# Altium integrated library Celestial Library.IntLib: 629 symbols (part 17 of 28)

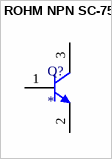
[diagram p368: symbol ROHM NPN SC-75]

## ROHM NPN SC-75
designator Q?
pins: 1 B, 2 E, 3 C


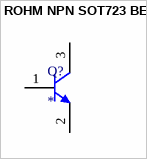
[diagram p369: symbol ROHM NPN SOT723 BEC]

## ROHM NPN SOT723 BEC
designator Q?
pins: 1 B, 2 E, 3 C


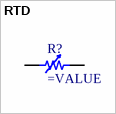
[diagram p370: symbol RTD]

## RTD
designator R?
SMT Resistor
pins: 1, 2


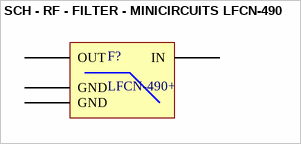
[diagram p371: symbol SCH - RF - FILTER - MINICIRCUITS LFCN-490]

## SCH - RF - FILTER - MINICIRCUITS LFCN-490
designator F?, comment LFCN-490+
490MHz Low Pass Filter
pins: 1 IN "Desc1", 2 GND "Desc1", 3 OUT "Desc1", 4 GND "Desc1"


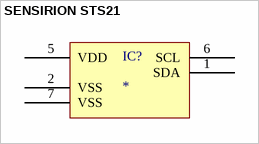
[diagram p372: symbol SENSIRION STS21]

## SENSIRION STS21
designator IC?
pins: 1 SDA, 2 VSS, 5 VDD, 6 SCL, 7 VSS


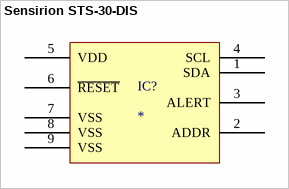
[diagram p373: symbol Sensirion STS-30-DIS]

## Sensirion STS-30-DIS
designator IC?
pins: 1 SDA, 2 ADDR, 3 ALERT, 4 SCL, 5 VDD, 6 ~{RESET}, 7 VSS, 8 VSS, 9 VSS


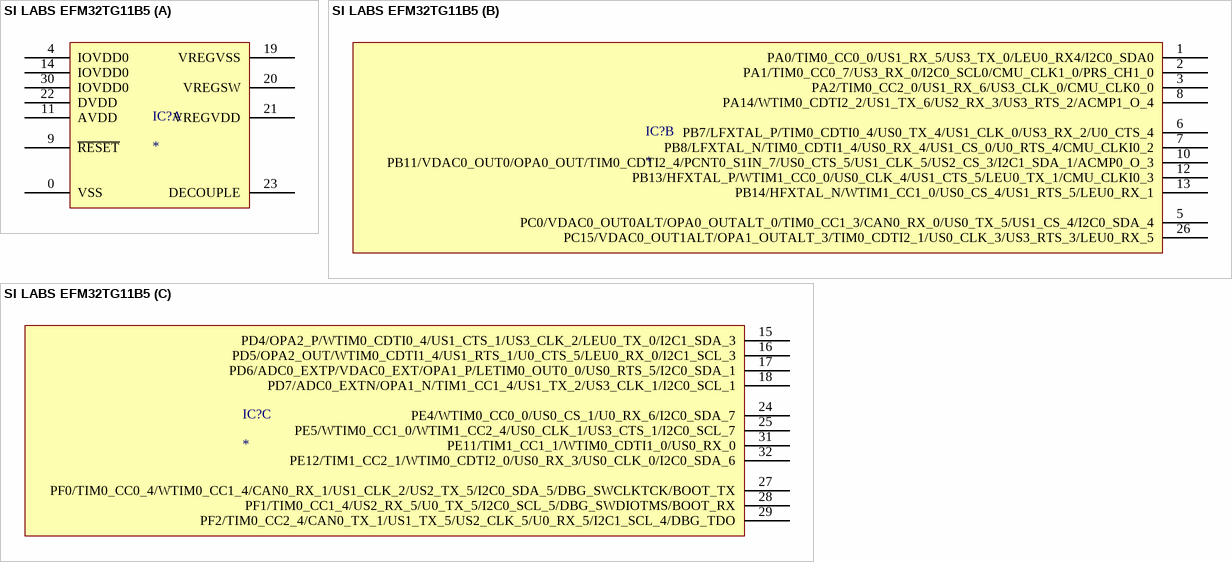
[diagram p374: symbol SI LABS EFM32TG11B5]

## SI LABS EFM32TG11B5
designator IC?
part A pins: 0 VSS, 4 IOVDD0, 9 ~{RESET}, 11 AVDD, 14 IOVDD0, 19 VREGVSS, 20 VREGSW, 21 VREGVDD, 22 DVDD, 23 DECOUPLE, 30 IOVDD0
part B pins: 1 PA0/TIM0_CC0_0/US1_RX_5/US3_TX_0/LEU0_RX4/I2C0_SDA0, 2 PA1/TIM0_CC0_7/US3_RX_0/I2C0_SCL0/CMU_CLK1_0/PRS_CH1_0, 3 PA2/TIM0_CC2_0/US1_RX_6/US3_CLK_0/CMU_CLK0_0, 5 PC0/VDAC0_OUT0ALT/OPA0_OUTALT_0/TIM0_CC1_3/CAN0_RX_0/US0_TX_5/US1_CS_4/I2C0_SDA_4, 6 PB7/LFXTAL_P/TIM0_CDTI0_4/US0_TX_4/US1_CLK_0/US3_RX_2/U0_CTS_4, 7 PB8/LFXTAL_N/TIM0_CDTI1_4/US0_RX_4/US1_CS_0/U0_RTS_4/CMU_CLKI0_2, 8 PA14/WTIM0_CDTI2_2/US1_TX_6/US2_RX_3/US3_RTS_2/ACMP1_O_4, 10 PB11/VDAC0_OUT0/OPA0_OUT/TIM0_CDTI2_4/PCNT0_S1IN_7/US0_CTS_5/US1_CLK_5/US2_CS_3/I2C1_SDA_1/ACMP0_O_3, 12 PB13/HFXTAL_P/WTIM1_CC0_0/US0_CLK_4/US1_CTS_5/LEU0_TX_1/CMU_CLKI0_3, 13 PB14/HFXTAL_N/WTIM1_CC1_0/US0_CS_4/US1_RTS_5/LEU0_RX_1, 26 PC15/VDAC0_OUT1ALT/OPA1_OUTALT_3/TIM0_CDTI2_1/US0_CLK_3/US3_RTS_3/LEU0_RX_5
part C pins: 15 PD4/OPA2_P/WTIM0_CDTI0_4/US1_CTS_1/US3_CLK_2/LEU0_TX_0/I2C1_SDA_3, 16 PD5/OPA2_OUT/WTIM0_CDTI1_4/US1_RTS_1/U0_CTS_5/LEU0_RX_0/I2C1_SCL_3, 17 PD6/ADC0_EXTP/VDAC0_EXT/OPA1_P/LETIM0_OUT0_0/US0_RTS_5/I2C0_SDA_1, 18 PD7/ADC0_EXTN/OPA1_N/TIM1_CC1_4/US1_TX_2/US3_CLK_1/I2C0_SCL_1, 24 PE4/WTIM0_CC0_0/US0_CS_1/U0_RX_6/I2C0_SDA_7, 25 PE5/WTIM0_CC1_0/WTIM1_CC2_4/US0_CLK_1/US3_CTS_1/I2C0_SCL_7, 27 PF0/TIM0_CC0_4/WTIM0_CC1_4/CAN0_RX_1/US1_CLK_2/US2_TX_5/I2C0_SDA_5/DBG_SWCLKTCK/BOOT_TX, 28 PF1/TIM0_CC1_4/US2_RX_5/U0_TX_5/I2C0_SCL_5/DBG_SWDIOTMS/BOOT_RX, 29 PF2/TIM0_CC2_4/CAN0_TX_1/US1_TX_5/US2_CLK_5/U0_RX_5/I2C1_SCL_4/DBG_TDO, 31 PE11/TIM1_CC1_1/WTIM0_CDTI1_0/US0_RX_0, 32 PE12/TIM1_CC2_1/WTIM0_CDTI2_0/US0_RX_3/US0_CLK_0/I2C0_SDA_6


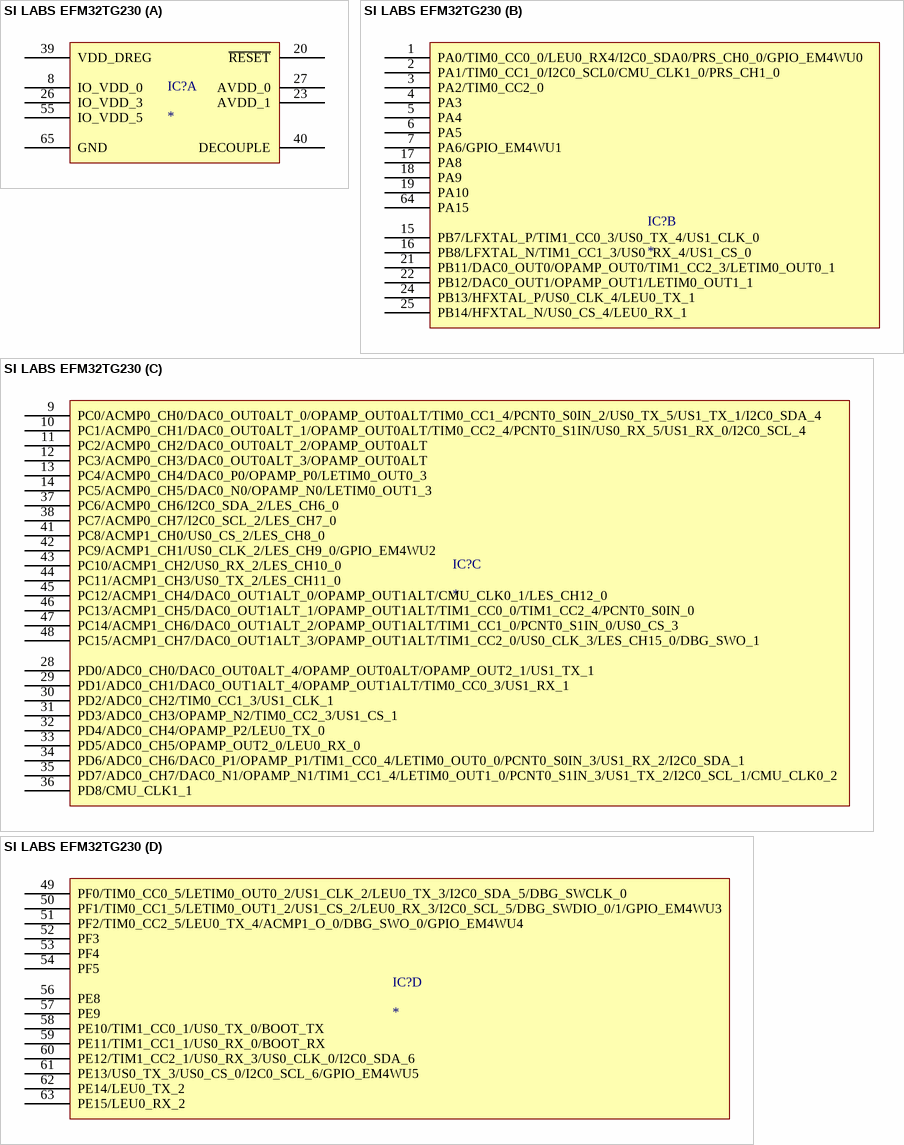
[diagram p375: symbol SI LABS EFM32TG230]

## SI LABS EFM32TG230
designator IC?
part A pins: 8 IO_VDD_0, 20 ~{RESET}, 23 AVDD_1, 26 IO_VDD_3, 27 AVDD_0, 39 VDD_DREG , 40 DECOUPLE, 55 IO_VDD_5, 65 GND
part B pins: 1 PA0/TIM0_CC0_0/LEU0_RX4/I2C0_SDA0/PRS_CH0_0/GPIO_EM4WU0, 2 PA1/TIM0_CC1_0/I2C0_SCL0/CMU_CLK1_0/PRS_CH1_0, 3 PA2/TIM0_CC2_0, 4 PA3, 5 PA4, 6 PA5, 7 PA6/GPIO_EM4WU1, 15 PB7/LFXTAL_P/TIM1_CC0_3/US0_TX_4/US1_CLK_0, 16 PB8/LFXTAL_N/TIM1_CC1_3/US0_RX_4/US1_CS_0, 17 PA8, 18 PA9, 19 PA10, 21 PB11/DAC0_OUT0/OPAMP_OUT0/TIM1_CC2_3/LETIM0_OUT0_1, 22 PB12/DAC0_OUT1/OPAMP_OUT1/LETIM0_OUT1_1, 24 PB13/HFXTAL_P/US0_CLK_4/LEU0_TX_1, 25 PB14/HFXTAL_N/US0_CS_4/LEU0_RX_1, 64 PA15
part C pins: 9 PC0/ACMP0_CH0/DAC0_OUT0ALT_0/OPAMP_OUT0ALT/TIM0_CC1_4/PCNT0_S0IN_2/US0_TX_5/US1_TX_1/I2C0_SDA_4, 10 PC1/ACMP0_CH1/DAC0_OUT0ALT_1/OPAMP_OUT0ALT/TIM0_CC2_4/PCNT0_S1IN/US0_RX_5/US1_RX_0/I2C0_SCL_4, 11 PC2/ACMP0_CH2/DAC0_OUT0ALT_2/OPAMP_OUT0ALT, 12 PC3/ACMP0_CH3/DAC0_OUT0ALT_3/OPAMP_OUT0ALT, 13 PC4/ACMP0_CH4/DAC0_P0/OPAMP_P0/LETIM0_OUT0_3, 14 PC5/ACMP0_CH5/DAC0_N0/OPAMP_N0/LETIM0_OUT1_3, 28 PD0/ADC0_CH0/DAC0_OUT0ALT_4/OPAMP_OUT0ALT/OPAMP_OUT2_1/US1_TX_1, 29 PD1/ADC0_CH1/DAC0_OUT1ALT_4/OPAMP_OUT1ALT/TIM0_CC0_3/US1_RX_1, 30 PD2/ADC0_CH2/TIM0_CC1_3/US1_CLK_1, 31 PD3/ADC0_CH3/OPAMP_N2/TIM0_CC2_3/US1_CS_1, 32 PD4/ADC0_CH4/OPAMP_P2/LEU0_TX_0, 33 PD5/ADC0_CH5/OPAMP_OUT2_0/LEU0_RX_0, 34 PD6/ADC0_CH6/DAC0_P1/OPAMP_P1/TIM1_CC0_4/LETIM0_OUT0_0/PCNT0_S0IN_3/US1_RX_2/I2C0_SDA_1, 35 PD7/ADC0_CH7/DAC0_N1/OPAMP_N1/TIM1_CC1_4/LETIM0_OUT1_0/PCNT0_S1IN_3/US1_TX_2/I2C0_SCL_1/CMU_CLK0_2, 36 PD8/CMU_CLK1_1, 37 PC6/ACMP0_CH6/I2C0_SDA_2/LES_CH6_0, 38 PC7/ACMP0_CH7/I2C0_SCL_2/LES_CH7_0, 41 PC8/ACMP1_CH0/US0_CS_2/LES_CH8_0, 42 PC9/ACMP1_CH1/US0_CLK_2/LES_CH9_0/GPIO_EM4WU2, 43 PC10/ACMP1_CH2/US0_RX_2/LES_CH10_0, 44 PC11/ACMP1_CH3/US0_TX_2/LES_CH11_0, 45 PC12/ACMP1_CH4/DAC0_OUT1ALT_0/OPAMP_OUT1ALT/CMU_CLK0_1/LES_CH12_0, 46 PC13/ACMP1_CH5/DAC0_OUT1ALT_1/OPAMP_OUT1ALT/TIM1_CC0_0/TIM1_CC2_4/PCNT0_S0IN_0, 47 PC14/ACMP1_CH6/DAC0_OUT1ALT_2/OPAMP_OUT1ALT/TIM1_CC1_0/PCNT0_S1IN_0/US0_CS_3, 48 PC15/ACMP1_CH7/DAC0_OUT1ALT_3/OPAMP_OUT1ALT/TIM1_CC2_0/US0_CLK_3/LES_CH15_0/DBG_SWO_1
part D pins: 49 PF0/TIM0_CC0_5/LETIM0_OUT0_2/US1_CLK_2/LEU0_TX_3/I2C0_SDA_5/DBG_SWCLK_0, 50 PF1/TIM0_CC1_5/LETIM0_OUT1_2/US1_CS_2/LEU0_RX_3/I2C0_SCL_5/DBG_SWDIO_0/1/GPIO_EM4WU3, 51 PF2/TIM0_CC2_5/LEU0_TX_4/ACMP1_O_0/DBG_SWO_0/GPIO_EM4WU4, 52 PF3, 53 PF4, 54 PF5, 56 PE8, 57 PE9, 58 PE10/TIM1_CC0_1/US0_TX_0/BOOT_TX, 59 PE11/TIM1_CC1_1/US0_RX_0/BOOT_RX, 60 PE12/TIM1_CC2_1/US0_RX_3/US0_CLK_0/I2C0_SDA_6, 61 PE13/US0_TX_3/US0_CS_0/I2C0_SCL_6/GPIO_EM4WU5, 62 PE14/LEU0_TX_2, 63 PE15/LEU0_RX_2


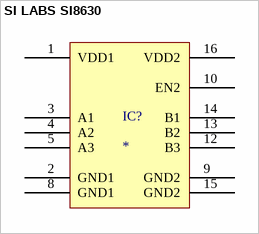
[diagram p376: symbol SI LABS SI8630]

## SI LABS SI8630
designator IC?
pins: 1 VDD1, 2 GND1, 3 A1, 4 A2, 5 A3, 8 GND1, 9 GND2, 10 EN2, 12 B3, 13 B2, 14 B1, 15 GND2, 16 VDD2


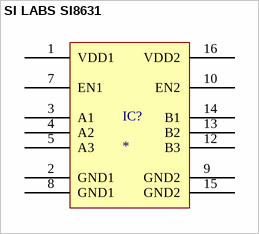
[diagram p377: symbol SI LABS SI8631]

## SI LABS SI8631
designator IC?
pins: 1 VDD1, 2 GND1, 3 A1, 4 A2, 5 A3, 7 EN1, 8 GND1, 9 GND2, 10 EN2, 12 B3, 13 B2, 14 B1, 15 GND2, 16 VDD2


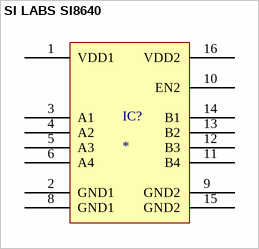
[diagram p378: symbol SI LABS SI8640]

## SI LABS SI8640
designator IC?
pins: 1 VDD1, 2 GND1, 3 A1, 4 A2, 5 A3, 6 A4, 8 GND1, 9 GND2, 10 EN2, 11 B4, 12 B3, 13 B2, 14 B1, 15 GND2, 16 VDD2


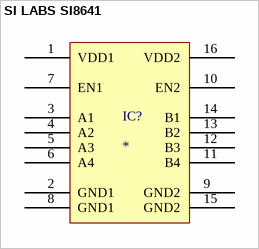
[diagram p379: symbol SI LABS SI8641]

## SI LABS SI8641
designator IC?
pins: 1 VDD1, 2 GND1, 3 A1, 4 A2, 5 A3, 6 A4, 7 EN1, 8 GND1, 9 GND2, 10 EN2, 11 B4, 12 B3, 13 B2, 14 B1, 15 GND2, 16 VDD2


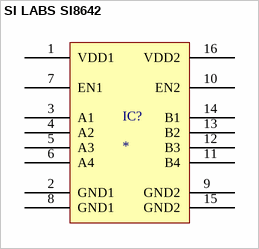
[diagram p380: symbol SI LABS SI8642]

## SI LABS SI8642
designator IC?
pins: 1 VDD1, 2 GND1, 3 A1, 4 A2, 5 A3, 6 A4, 7 EN1, 8 GND1, 9 GND2, 10 EN2, 11 B4, 12 B3, 13 B2, 14 B1, 15 GND2, 16 VDD2


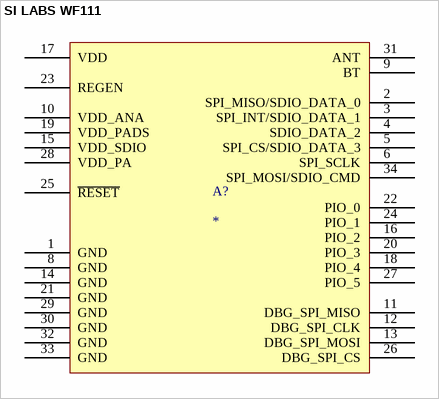
[diagram p381: symbol SI LABS WF111]

## SI LABS WF111
designator A?
pins: 1 GND, 2 SPI_MISO/SDIO_DATA_0, 3 SPI_INT/SDIO_DATA_1, 4 SDIO_DATA_2, 5 SPI_CS/SDIO_DATA_3, 6 SPI_SCLK, 8 GND, 9 BT, 10 VDD_ANA, 11 DBG_SPI_MISO, 12 DBG_SPI_CLK, 13 DBG_SPI_MOSI, 14 GND, 15 VDD_SDIO, 16 PIO_2, 17 VDD, 18 PIO_4, 19 VDD_PADS, 20 PIO_3, 21 GND, 22 PIO_0, 23 REGEN, 24 PIO_1, 25 ~{RESET}, 26 DBG_SPI_CS, 27 PIO_5, 28 VDD_PA, 29 GND, 30 GND, 31 ANT, 32 GND, 33 GND, 34 SPI_MOSI/SDIO_CMD


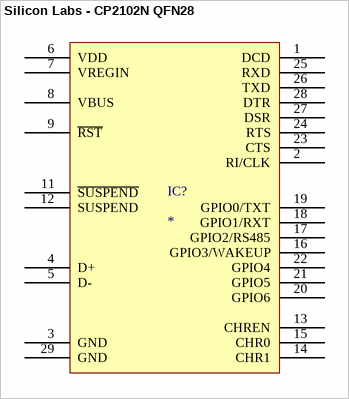
[diagram p382: symbol Silicon Labs - CP2102N QFN28]

## Silicon Labs - CP2102N QFN28
designator IC?
pins: 1 DCD, 2 RI/CLK, 3 GND, 4 D+, 5 D-, 6 VDD, 7 VREGIN, 8 VBUS, 9 ~{RST}, 11 ~{SUSPEND}, 12 SUSPEND, 13 CHREN, 14 CHR1, 15 CHR0, 16 GPIO3/WAKEUP, 17 GPIO2/RS485, 18 GPIO1/RXT, 19 GPIO0/TXT, 20 GPIO6, 21 GPIO5, 22 GPIO4, 23 CTS, 24 RTS, 25 RXD, 26 TXD, 27 DSR, 28 DTR, 29 GND


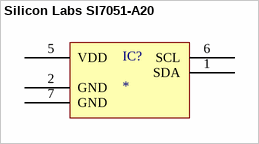
[diagram p383: symbol Silicon Labs SI7051-A20]

## Silicon Labs SI7051-A20
designator IC?
pins: 1 SDA, 2 GND, 5 VDD, 6 SCL, 7 GND


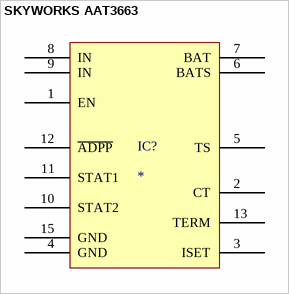
[diagram p384: symbol SKYWORKS AAT3663]

## SKYWORKS AAT3663
designator IC?
pins: 1 EN, 2 CT, 3 ISET, 4 GND, 5 TS, 6 BATS, 7 BAT, 8 IN, 9 IN, 10 STAT2, 11 STAT1, 12 ~{ADPP}, 13 TERM, 15 GND


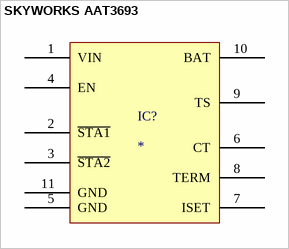
[diagram p385: symbol SKYWORKS AAT3693]

## SKYWORKS AAT3693
designator IC?
pins: 1 VIN, 2 ~{STA1}, 3 ~{STA2}, 4 EN, 5 GND, 6 CT, 7 ISET, 8 TERM, 9 TS, 10 BAT, 11 GND


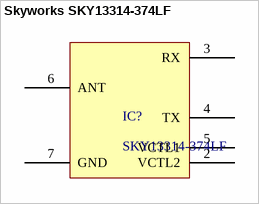
[diagram p386: symbol Skyworks SKY13314-374LF]

## Skyworks SKY13314-374LF
designator IC?, comment SKY13314-374LF
0.1 to 6.0 GHz GaAs SPDT Switch
pins: 2 VCTL2, 3 RX, 4 TX, 5 VCTL1, 6 ANT, 7 GND


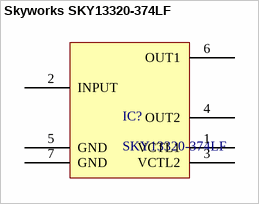
[diagram p387: symbol Skyworks SKY13320-374LF]

## Skyworks SKY13320-374LF
designator IC?, comment SKY13320-374LF
0.1-6.0 GHz GaAs SPDT Switch
pins: 1 VCTL1, 2 INPUT, 3 VCTL2, 4 OUT2, 5 GND, 6 OUT1, 7 GND


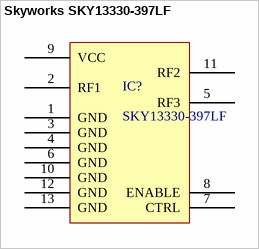
[diagram p388: symbol Skyworks SKY13330-397LF]

## Skyworks SKY13330-397LF
designator IC?, comment SKY13330-397LF
0.1-6.0GHz SPDT Switch
pins: 1 GND, 2 RF1, 3 GND, 4 GND, 5 RF3, 6 GND, 7 CTRL, 8 ENABLE, 9 VCC, 10 GND, 11 RF2, 12 GND, 13 GND


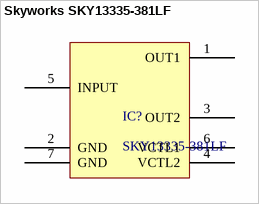
[diagram p389: symbol Skyworks SKY13335-381LF]

## Skyworks SKY13335-381LF
designator IC?, comment SKY13335-381LF
0.1-6.0 GHz GaAs SPDT Switch
pins: 1 OUT1, 2 GND, 3 OUT2, 4 VCTL2, 5 INPUT, 6 VCTL1, 7 GND


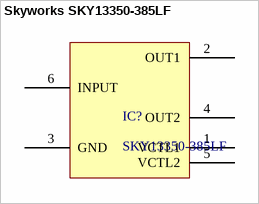
[diagram p390: symbol Skyworks SKY13350-385LF]

## Skyworks SKY13350-385LF
designator IC?, comment SKY13350-385LF
0.01-6.0 GHz GaAs SPDT Switch
pins: 1 VCTL1, 2 OUT1, 3 GND, 4 OUT2, 5 VCTL2, 6 INPUT
